# Altium footprint library 14.Pads.PcbLib: 28 footprints (part 1 of 2)
Each footprint in its own frame and in the unit in brackets; x right, y up, seen from the top. Pads: shape width x height; smd on the part's side, far side on the other; paste and mask are expansions set on the pad; w line width, h text height; cw(c..) or ccw(c..) is an arc to the next point about the centre after c.
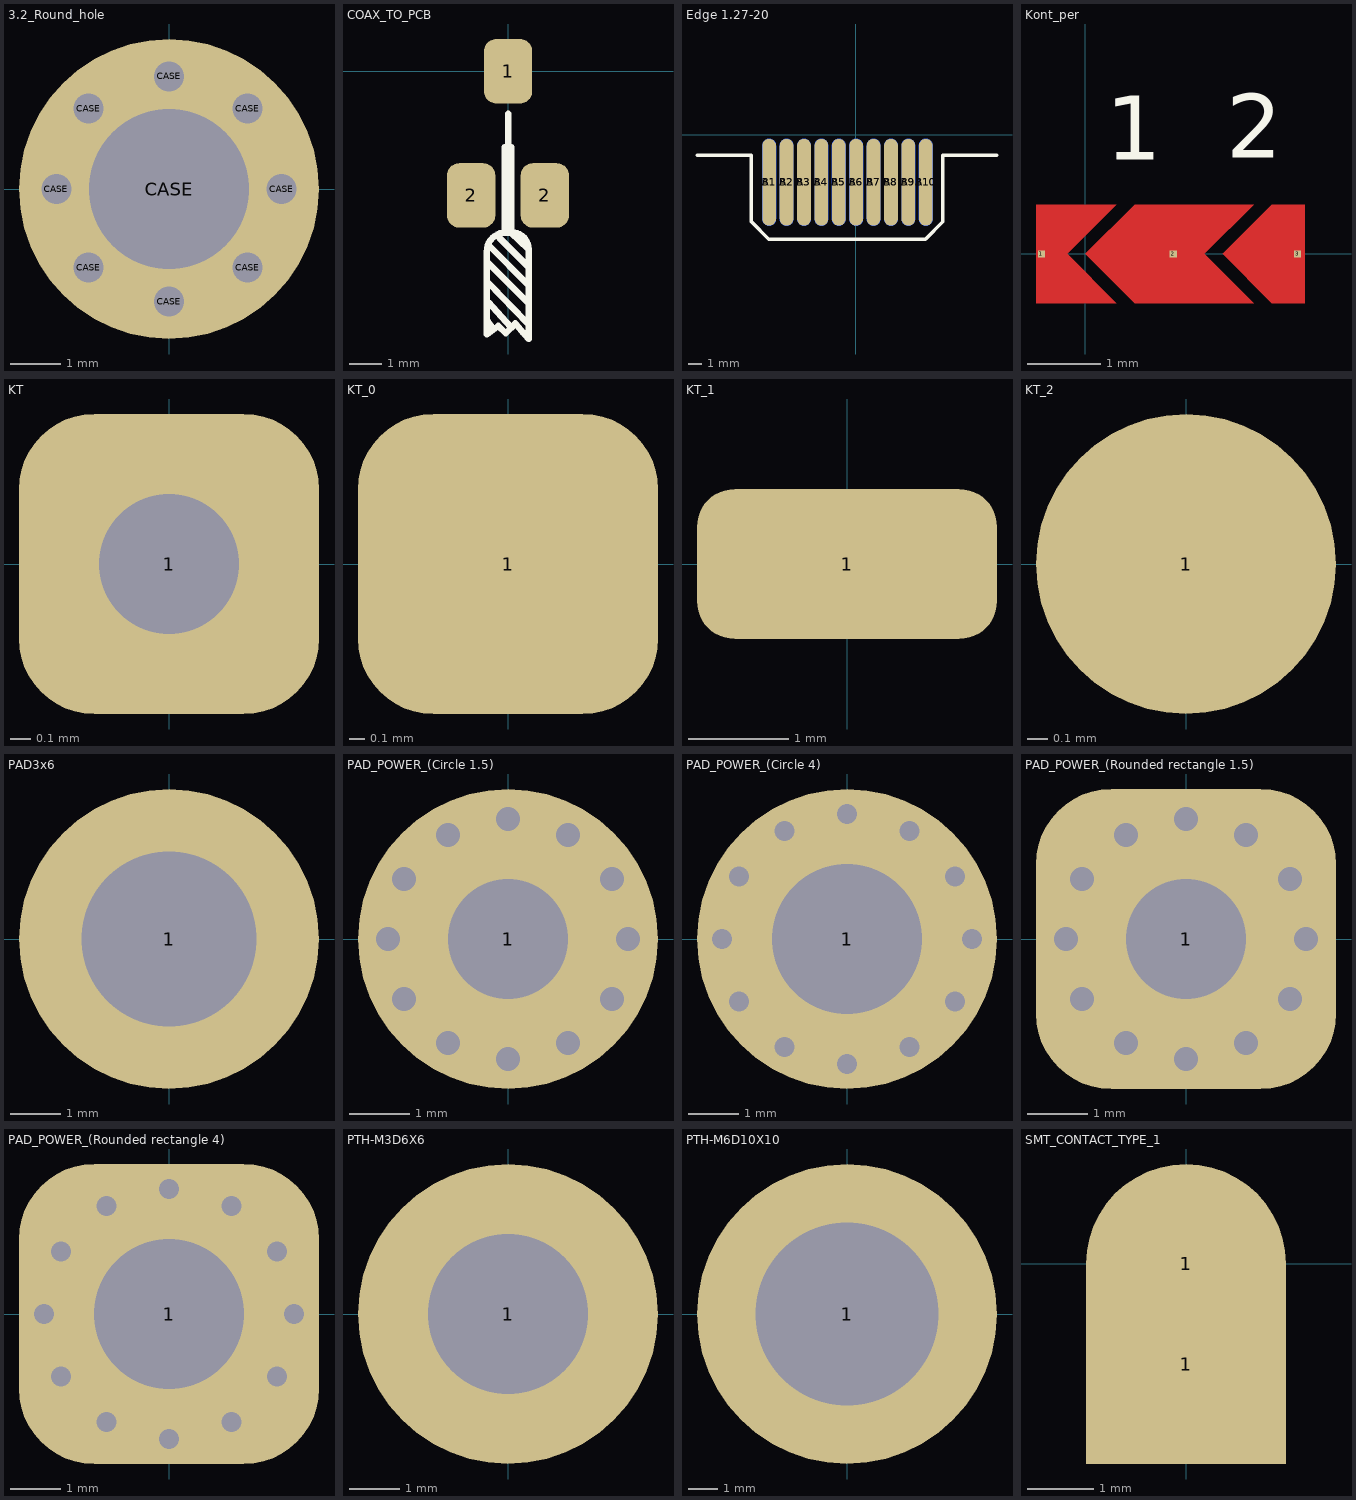
[diagram p0: the footprints below, top view; thin cyan lines are the x and y axes]

## 3.2_Round_hole [mm]
pads (9):
  round 0.6 hole 0.6: CASE(-2.25,0) CASE(-1.609,-1.573) CASE(-1.609,1.609) CASE(0,-2.25) CASE(0,2.25) CASE(1.573,-1.573) CASE(1.573,1.609) CASE(2.25,0)
  round 6 hole 3.2: CASE(0,0)

## COAX_TO_PCB [mm]
pads (3):
  rrect50% 1.5x2 smd: 1(0,0) 2(-1.145,-3.854) 2(1.141,-3.854)
Top Overlay:
  lines w0.2: -0.66,-7.674 -0.66,-8.153 -0.402,-7.969 ; -0.613,-7.168 0.076,-7.925 ; -0.613,-6.558 0.635,-7.849 ; -0.613,-5.948 0.618,-7.179 ; -0.587,-5.415 0.618,-6.62 ; -0.483,-7.95 -0.635,-7.747 -0.66,-7.696 -0.66,-5.588 cw(c-0.076,-5.588) -0.076,-5.004 ; -0.305,-7.899 -0.076,-8.128 0.229,-7.823 0.483,-8.128 ; -0.279,-5.131 -0.279,-5.156 0.635,-6.071 ; 0,-2.438 0,-1.321 ; 0.076,-5.004 -0.051,-5.004 -0.102,-4.953 -0.102,-2.35 0.1,-2.35 0.1,-4.98 0.082,-4.998 0.635,-5.521 0.635,-7.772 ; 0.127,-5.004 cw(c0.127,-5.512) 0.635,-5.512 ; 0.457,-8.103 0.635,-8.306 0.635,-7.722

## Edge 1.27-20 [mm]
pads (20):
  rrect100% 1x6.35 smd: A1(-6.33,-3.46) A2(-5.06,-3.46) A3(-3.79,-3.46) A4(-2.52,-3.46) A5(-1.25,-3.46) A6(0.02,-3.46) A7(1.29,-3.46) A8(2.56,-3.46) A9(3.83,-3.46) A10(5.1,-3.46)
  rrect100% 1x6.35 smd far side: B1(-6.33,-3.46) B2(-5.06,-3.46) B3(-3.79,-3.46) B4(-2.52,-3.46) B5(-1.25,-3.46) B6(0.02,-3.46) B7(1.29,-3.46) B8(2.56,-3.46) B9(3.83,-3.46) B10(5.1,-3.46)
Top Overlay:
  lines w0.254: -11.6,-1.5 -7.65,-1.5 -7.65,-6.35 ; -7.62,-6.35 -6.35,-7.62 ; -6.375,-7.62 5.08,-7.62 6.35,-6.35 6.35,-1.5 10.3,-1.5

## Kont_per [mm]
pads (3):
  rect 0.1x0.1 smd: 1(-0.6,0) 2(1.2,0) 3(2.9,0)
Top Layer:
  region: -0.675,0.675 0.425,0.675 -0.25,0 0.425,-0.675 -0.675,-0.675 -0.675,-0.65
  region: 1.123,0.675 0.675,0.675 0,0 0.675,-0.675 1.123,-0.675
  region: 2.998,0.675 2.55,0.675 1.875,0 2.55,-0.675 2.998,-0.675
  region: 1.1,0.675 2.3,0.675 1.625,0 2.3,-0.675 1.2,-0.675 1.1,-0.675
Top Overlay:
  text "2" at 1.925,1.025 h1.5
  text "1" at 0.275,1 h1.5
Top Solder:
  rectangle: -0.4,-0.75 0.8,0.75
  rectangle: 1.5,-0.75 2.7,0.75

## KT [mm]
pads (1):
  rrect50% 1.5x1.5 hole 0.7: 1(0,0)

## KT_0 [mm]
pads (1):
  rrect50% 2x2 smd: 1(0,0)

## KT_1 [mm]
pads (1):
  rrect50% 3x1.5 smd: 1(0,0)

## KT_2 [mm]
pads (1):
  round 1.5 smd: 1(0,0)

## PAD3x6 [mm]
pads (1):
  round 6 hole 3.5: 1(0,0)

## PAD_POWER_(Circle 1.5) [mm]
pads (1):
  round 5 hole 2: 1(0,0)
via -1,-1.732 diameter 0.81 hole 0.4
via -1,1.732 diameter 0.81 hole 0.4
via -1.732,1 diameter 0.81 hole 0.4
via -2,0 diameter 0.81 hole 0.4
via -1.732,-1 diameter 0.81 hole 0.4
via 0,-2 diameter 0.81 hole 0.4
via 1.732,-1 diameter 0.81 hole 0.4
via 1,-1.732 diameter 0.81 hole 0.4
via 2,0 diameter 0.81 hole 0.4
via 1.732,1 diameter 0.81 hole 0.4
via 1,1.732 diameter 0.81 hole 0.4
via 0,2 diameter 0.81 hole 0.4

## PAD_POWER_(Circle 4) [mm]
pads (1):
  round 6 hole 3: 1(0,0)
via 0,2.5 diameter 0.81 hole 0.4
via 1.25,2.165 diameter 0.81 hole 0.4
via 2.165,1.25 diameter 0.81 hole 0.4
via 2.5,0 diameter 0.81 hole 0.4
via 2.165,-1.25 diameter 0.81 hole 0.4
via 0,-2.5 diameter 0.81 hole 0.4
via -2.165,-1.25 diameter 0.81 hole 0.4
via -1.25,-2.165 diameter 0.81 hole 0.4
via -2.5,0 diameter 0.81 hole 0.4
via -2.165,1.25 diameter 0.81 hole 0.4
via -1.25,2.165 diameter 0.81 hole 0.4
via 1.25,-2.165 diameter 0.81 hole 0.4

## PAD_POWER_(Rounded rectangle 1.5) [mm]
pads (1):
  rrect50% 5x5 hole 2: 1(0,0)
via -1,1.732 diameter 0.81 hole 0.4
via -1.732,1 diameter 0.81 hole 0.4
via -2,0 diameter 0.81 hole 0.4
via -1.732,-1 diameter 0.81 hole 0.4
via -1,-1.732 diameter 0.81 hole 0.4
via 0,-2 diameter 0.81 hole 0.4
via 1,-1.732 diameter 0.81 hole 0.4
via 1.732,-1 diameter 0.81 hole 0.4
via 2,0 diameter 0.81 hole 0.4
via 1.732,1 diameter 0.81 hole 0.4
via 1,1.732 diameter 0.81 hole 0.4
via 0,2 diameter 0.81 hole 0.4

## PAD_POWER_(Rounded rectangle 4) [mm]
pads (1):
  rrect50% 6x6 hole 3: 1(0,0)
via -1.25,2.165 diameter 0.81 hole 0.4
via -2.165,1.25 diameter 0.81 hole 0.4
via -2.5,0 diameter 0.81 hole 0.4
via -2.165,-1.25 diameter 0.81 hole 0.4
via -1.25,-2.165 diameter 0.81 hole 0.4
via 0,-2.5 diameter 0.81 hole 0.4
via 2.165,-1.25 diameter 0.81 hole 0.4
via 1.25,-2.165 diameter 0.81 hole 0.4
via 2.5,0 diameter 0.81 hole 0.4
via 2.165,1.25 diameter 0.81 hole 0.4
via 1.25,2.165 diameter 0.81 hole 0.4
via 0,2.5 diameter 0.81 hole 0.4

## PTH-M3D6X6 [mm]
pads (1):
  round 6 hole 3.2: 1(0,0)

## PTH-M6D10X10 [mm]
pads (1):
  round 10.3 hole 6.3: 1(0,0)

## SMT_CONTACT_TYPE_1 [mm]
pads (2):
  rect 3x3 smd: 1(0,-1.5)
  round 3 smd: 1(0,0)